# EAGLE library part LM358 (library _RoweTel)
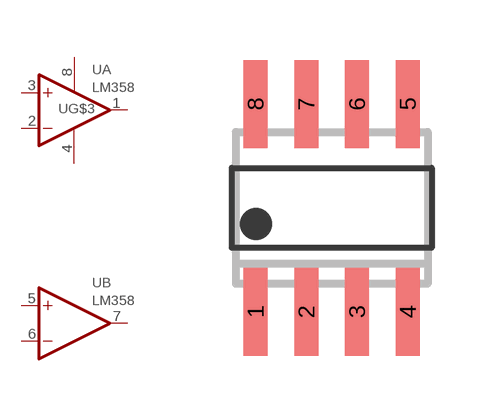
[diagram p19: symbol with the pads of SO08; footprint SO08]

Designator prefix U; gates A=OPAMP B=OPAMP G$3=PWRG

## LM358  [SO08]
1  A:OUT  out
2  A:-IN  in
3  A:+IN  in
4  G$3:V-  pwr
5  B:+IN  in
6  B:-IN  in
7  B:OUT  out
8  G$3:V+  pwr

## Footprint SO08 (pad centres in mm)
Small Outline Package 8 NS Package M08A
smd 0.6 x 2.2: 1 -1.905,-2.6; 2 -0.635,-2.6; 3 0.635,-2.6; 4 1.905,-2.6; 5 1.905,2.6; 6 0.635,2.6; 7 -0.635,2.6; 8 -1.905,2.6